# EAGLE library part TPS6120X (library pimoroni-ics)
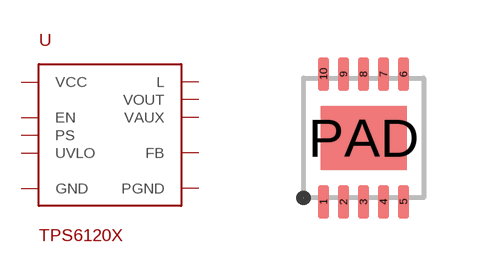
[diagram p28: symbol with the pads of VSON-10; footprint VSON-10]

Designator prefix -

## TPS6120X  [VSON-10]
1  VAUX
2  VOUT
3  L
4  PGND
5  VCC
6  EN
7  UVLO
8  PS
9  GND
10  FB

## Footprint VSON-10 (pad centres in mm)
smd 0.28 x 0.85: 1 -1,-1.6; 2 -0.5,-1.6; 3 0,-1.6; 4 0.5,-1.6; 5 1,-1.6; 6 1,1.6; 7 0.5,1.6; 8 0,1.6; 9 -0.5,1.6; 10 -1,1.6
smd 2.15 x 1.6: PAD 0,0